# Altium schematic symbol library DACs.SchLib: 1 symbol
Pins are listed as number, name and electrical type; pins without a type are passive.

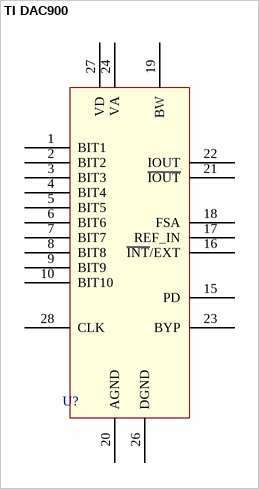
[diagram p0: symbol TI DAC900]

## TI DAC900
designator U?, comment DAC900  (value not drawn)
10-bit DAC; Manufacturer Part No.: DAC900U; Digi-Key Part No.: DAC900U-ND
footprint TI DAC900 (TI 10-bit SOIC)
pins: 1 BIT1, 2 BIT2, 3 BIT3, 4 BIT4, 5 BIT5, 6 BIT6, 7 BIT7, 8 BIT8, 9 BIT9, 10 BIT10, 15 PD, 16 ~{INT}/EXT, 17 REF_IN, 18 FSA, 19 BW, 20 AGND, 21 ~{IOUT}, 22 IOUT, 23 BYP, 24 VA, 26 DGND, 27 VD, 28 CLK